# Altium footprint library Fasteners & Fixings.PcbLib: 118 footprints (part 3 of 8)
Each footprint in its own frame and in the unit in brackets; x right, y up, seen from the top. Pads: shape width x height; smd on the part's side, far side on the other; paste and mask are expansions set on the pad; w line width, h text height; cw(c..) or ccw(c..) is an arc to the next point about the centre after c.
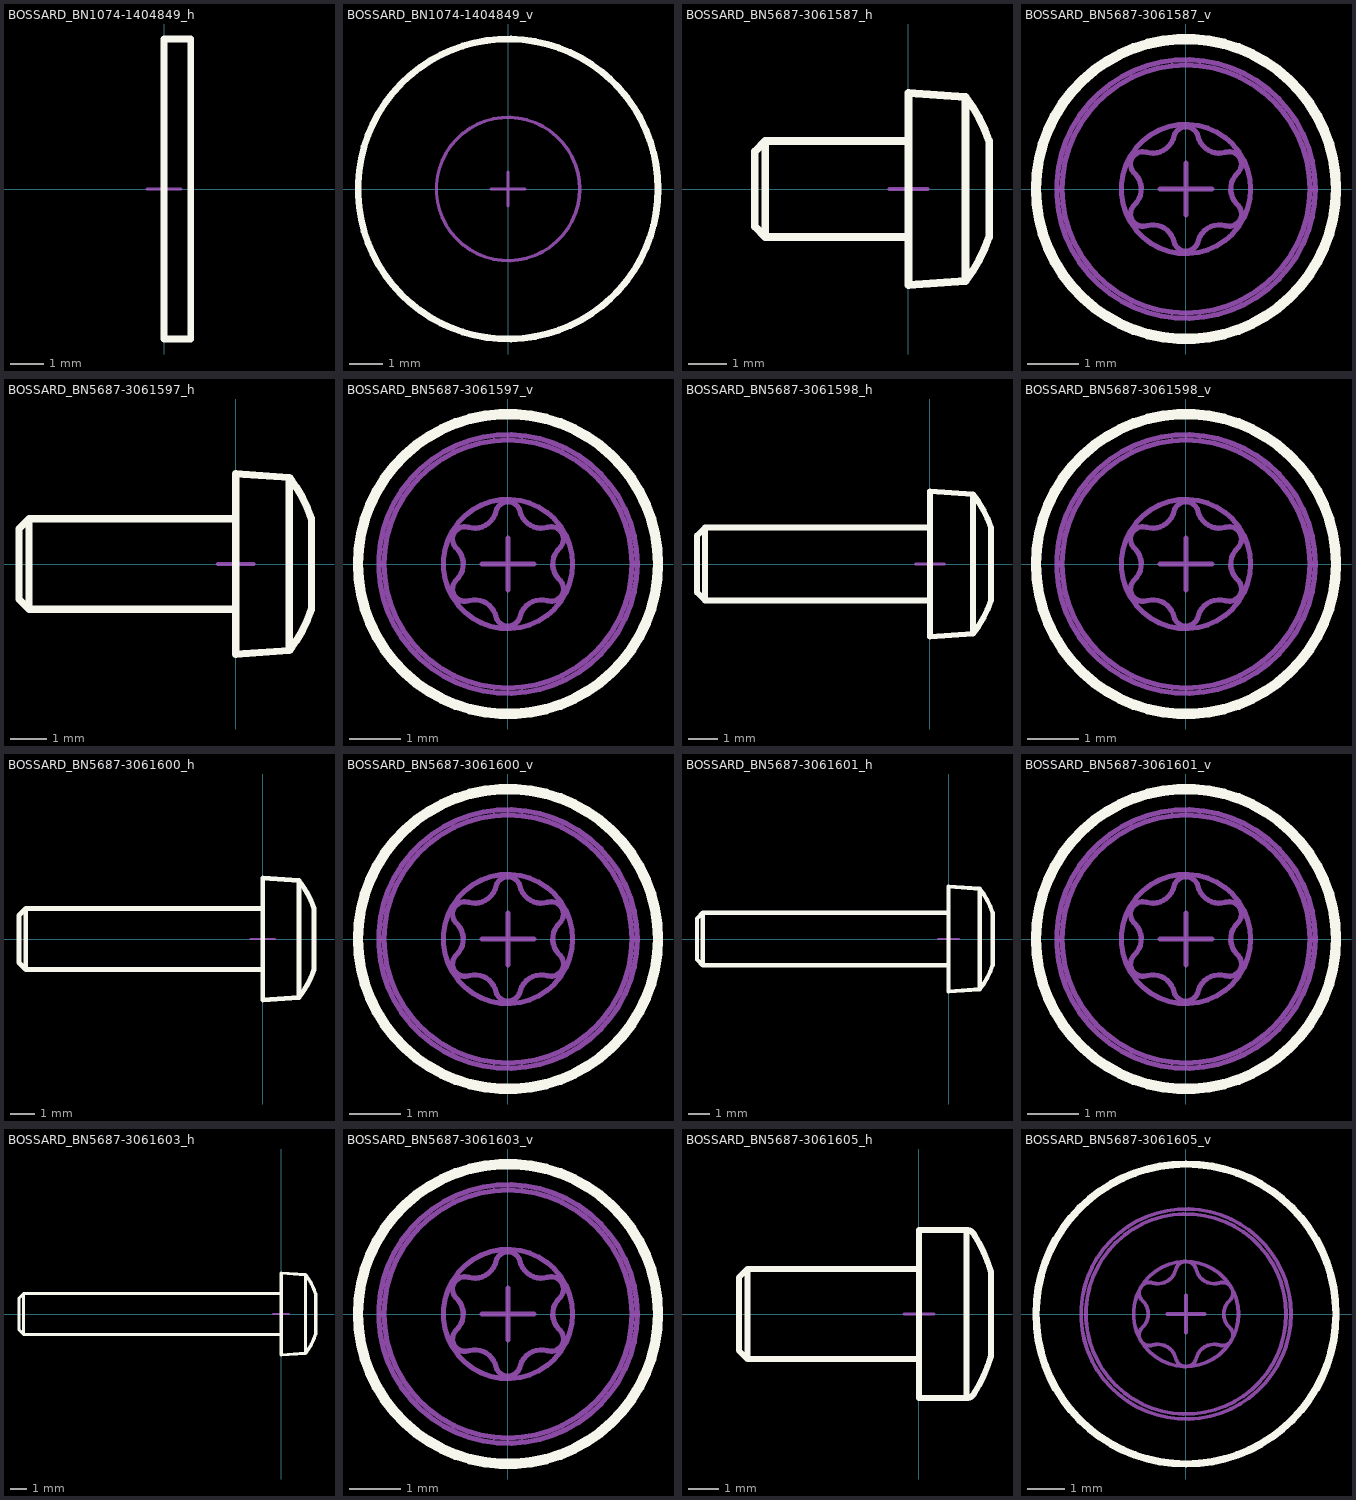
[diagram p2: the footprints below, top view; thin cyan lines are the x and y axes]

## BOSSARD_BN1074-1404849_h [mm] "Flat Washer without Chamfer for M4 Screw - Polyamide"
height 9
Top Overlay:
  lines w0.2: 0,-4.5 0,4.5 0.8,4.5 0.8,-4.5 0,-4.5
Mechanical 8:
  lines w0.1: -0.5,0 0,0 ; 0,-0.5 0,0 ; 0,0.5 0,0 ; 0.5,0 0,0
Mechanical 14:
  lines w0.1: 0,-4.5 0,4.5 0.8,4.5 0.8,-4.5 0,-4.5
3D body "BOSSARD_BN1074-1404849_h.stp": height 4.5, standoff -4.5, extent 0,-4.5 0.8,4.5

## BOSSARD_BN1074-1404849_v [mm] "Flat Washer without Chamfer for M4 Screw - Polyamide"
height 0.8
Top Overlay:
  circle w0.2: c0,0 r4.5
Mechanical 8:
  lines w0.1: -0.5,0 0,0 ; 0,-0.5 0,0 ; 0,0.5 0,0 ; 0.5,0 0,0
Mechanical 14:
  circle w0.1: c0,0 r2.15
  circle w0.1: c0,0 r4.5
3D body "BOSSARD_BN1074-1404849_v.stp": height 0.8, standoff 0, extent -4.5,-4.5 4.5,4.5

## BOSSARD_BN5687-3061587_h [mm] "M2.5 L=4mm Hexalobular Socket Pan Head Screw, Fully Threaded - Stainless Steel A2"
height 5
Top Overlay:
  lines w0.2: 0,-1.25 -3.724,-1.25 ; 0,1.25 -3.724,1.25 ; -3.724,-1.25 -3.724,1.25 ; -3.724,-1.25 -4,-0.974 -4,0.974 -3.724,1.25 ; 1.484,-2.396 ccw(c-1.598,0) 2.1,-1.25 2.1,1.25 ccw(c-1.598,0) 1.484,2.396 ; 1.484,-2.396 1.484,2.396 ; 1.484,-2.396 0,-2.5 0,2.5 1.484,2.396
Mechanical 8:
  lines w0.1: -0.5,0 0,0 ; 0,-0.5 0,0 ; 0,0.5 0,0 ; 0.5,0 0,0
Mechanical 14:
  lines w0.1: 0,-1.25 -3.724,-1.25 ; 0,1.25 -3.724,1.25 ; -3.724,-1.25 -3.724,1.25 ; -3.724,-1.25 -4,-0.974 -4,0.974 -3.724,1.25 ; 1.484,-2.396 ccw(c-1.598,0) 2.1,-1.25 2.1,1.25 ccw(c-1.598,0) 1.484,2.396 ; 1.484,-2.396 1.484,2.396 ; 1.484,-2.396 0,-2.5 0,2.5 1.484,2.396
3D body "BOSSARD_BN5687-3061587_h.stp": height 2.5, standoff -2.5, extent -4,-2.5 2.1,2.5

## BOSSARD_BN5687-3061587_v [mm] "M2.5 L=4mm Hexalobular Socket Pan Head Screw, Fully Threaded - Stainless Steel A2"
height 6.1
Top Overlay:
  circle w0.2: c0,0 r2.9
Mechanical 8:
  lines w0.1: -0.5,0 0,0 ; 0,-0.5 0,0 ; 0,0.5 0,0 ; 0.5,0 0,0
Mechanical 14:
  circle w0.1: c0,0 r2.396
  circle w0.1: c0,0 r1.25
  circle w0.1: c0,0 r2.5
  lines w0.1: 0.232,-1.021 cw(c0,-0.96) -0.233,-1.015 ccw(c-0.642,-1.112) -0.739,-0.704 cw(c-0.83,-0.48) -0.996,-0.305 ccw(c-1.284,0) -0.979,0.288 cw(c-0.831,0.479) -0.763,0.71 ccw(c-0.642,1.112) -0.233,1.015 cw(c0,0.96) 0.234,1.015 ccw(c0.642,1.112) 0.763,0.71 cw(c0.831,0.48) 0.996,0.305 ccw(c1.284,0) 0.979,-0.288 cw(c0.831,-0.479) 0.763,-0.71 ccw(c0.642,-1.112) 0.24,-0.992
3D body "BOSSARD_BN5687-3061587_v.stp": height 2.1, standoff -4, extent -2.5,-2.5 2.5,2.5

## BOSSARD_BN5687-3061597_h [mm] "M2.5 L=6mm Hexalobular Socket Pan Head Screw, Fully Threaded - Stainless Steel A2"
height 5
Top Overlay:
  lines w0.2: 0,-1.25 -5.724,-1.25 ; 0,1.25 -5.724,1.25 ; -5.724,-1.25 -6,-0.974 -6,0.974 -5.724,1.25 ; -5.724,-1.25 -5.724,1.25 ; 1.484,-2.396 ccw(c-1.598,0) 2.1,-1.25 2.1,1.25 ccw(c-1.598,0) 1.484,2.396 ; 1.484,-2.396 0,-2.5 0,2.5 1.484,2.396 ; 1.484,-2.396 1.484,2.396
Mechanical 8:
  lines w0.1: -0.5,0 0,0 ; 0,-0.5 0,0 ; 0,0.5 0,0 ; 0.5,0 0,0
Mechanical 14:
  lines w0.1: 0,-1.25 -5.724,-1.25 ; 0,1.25 -5.724,1.25 ; -5.724,-1.25 -6,-0.974 -6,0.974 -5.724,1.25 ; -5.724,-1.25 -5.724,1.25 ; 1.484,-2.396 ccw(c-1.598,0) 2.1,-1.25 2.1,1.25 ccw(c-1.598,0) 1.484,2.396 ; 1.484,-2.396 0,-2.5 0,2.5 1.484,2.396 ; 1.484,-2.396 1.484,2.396
3D body "BOSSARD_BN5687-3061597_h.stp": height 2.5, standoff -2.5, extent -6,-2.5 2.1,2.5

## BOSSARD_BN5687-3061597_v [mm] "M2.5 L=6mm Hexalobular Socket Pan Head Screw, Fully Threaded - Stainless Steel A2"
height 8.1
Top Overlay:
  circle w0.2: c0,0 r2.9
Mechanical 8:
  lines w0.1: -0.5,0 0,0 ; 0,-0.5 0,0 ; 0,0.5 0,0 ; 0.5,0 0,0
Mechanical 14:
  circle w0.1: c0,0 r2.396
  circle w0.1: c0,0 r1.25
  circle w0.1: c0,0 r2.5
  lines w0.1: 0.232,-1.021 cw(c0,-0.96) -0.233,-1.015 ccw(c-0.642,-1.112) -0.739,-0.704 cw(c-0.83,-0.48) -0.996,-0.305 ccw(c-1.284,0) -0.979,0.288 cw(c-0.831,0.479) -0.763,0.71 ccw(c-0.642,1.112) -0.233,1.015 cw(c0,0.96) 0.234,1.015 ccw(c0.642,1.112) 0.763,0.71 cw(c0.831,0.48) 0.996,0.305 ccw(c1.284,0) 0.979,-0.288 cw(c0.831,-0.479) 0.763,-0.71 ccw(c0.642,-1.112) 0.24,-0.992
3D body "BOSSARD_BN5687-3061597_v.stp": height 2.1, standoff -6, extent -2.5,-2.5 2.5,2.5

## BOSSARD_BN5687-3061598_h [mm] "M2.5 L=8mm Hexalobular Socket Pan Head Screw, Fully Threaded - Stainless Steel A2"
height 5
Top Overlay:
  lines w0.2: 0,-1.25 -7.724,-1.25 ; 0,1.25 -7.724,1.25 ; -7.724,-1.25 -7.724,1.25 ; -7.724,-1.25 -8,-0.974 -8,0.974 -7.724,1.25 ; 1.484,-2.396 ccw(c-1.598,0) 2.1,-1.25 2.1,1.25 ccw(c-1.598,0) 1.484,2.396 ; 1.484,-2.396 1.484,2.396 ; 1.484,-2.396 0,-2.5 0,2.5 1.484,2.396
Mechanical 8:
  lines w0.1: -0.5,0 0,0 ; 0,-0.5 0,0 ; 0,0.5 0,0 ; 0.5,0 0,0
Mechanical 14:
  lines w0.1: 0,-1.25 -7.724,-1.25 ; 0,1.25 -7.724,1.25 ; -7.724,-1.25 -7.724,1.25 ; -7.724,-1.25 -8,-0.974 -8,0.974 -7.724,1.25 ; 1.484,-2.396 ccw(c-1.598,0) 2.1,-1.25 2.1,1.25 ccw(c-1.598,0) 1.484,2.396 ; 1.484,-2.396 1.484,2.396 ; 1.484,-2.396 0,-2.5 0,2.5 1.484,2.396
3D body "BOSSARD_BN5687-3061598_h.stp": height 2.5, standoff -2.5, extent -8,-2.5 2.1,2.5

## BOSSARD_BN5687-3061598_v [mm] "M2.5 L=8mm Hexalobular Socket Pan Head Screw, Fully Threaded - Stainless Steel A2"
height 10.1
Top Overlay:
  circle w0.2: c0,0 r2.9
Mechanical 8:
  lines w0.1: -0.5,0 0,0 ; 0,-0.5 0,0 ; 0,0.5 0,0 ; 0.5,0 0,0
Mechanical 14:
  circle w0.1: c0,0 r2.396
  circle w0.1: c0,0 r1.25
  circle w0.1: c0,0 r2.5
  lines w0.1: 0.232,-1.021 cw(c0,-0.96) -0.233,-1.015 ccw(c-0.642,-1.112) -0.739,-0.704 cw(c-0.83,-0.48) -0.996,-0.305 ccw(c-1.284,0) -0.979,0.288 cw(c-0.831,0.479) -0.763,0.71 ccw(c-0.642,1.112) -0.233,1.015 cw(c0,0.96) 0.234,1.015 ccw(c0.642,1.112) 0.763,0.71 cw(c0.831,0.48) 0.996,0.305 ccw(c1.284,0) 0.979,-0.288 cw(c0.831,-0.479) 0.763,-0.71 ccw(c0.642,-1.112) 0.24,-0.992
3D body "BOSSARD_BN5687-3061598_v.stp": height 2.1, standoff -8, extent -2.5,-2.5 2.5,2.5

## BOSSARD_BN5687-3061600_h [mm] "M2.5 L=10mm Hexalobular Socket Pan Head Screw, Fully Threaded - Stainless Steel A2"
height 5
Top Overlay:
  lines w0.2: 0,-1.25 -9.724,-1.25 ; 0,1.25 -9.724,1.25 ; -9.724,-1.25 -10,-0.974 -10,0.974 -9.724,1.25 ; -9.724,-1.25 -9.724,1.25 ; 1.484,-2.396 ccw(c-1.598,0) 2.1,-1.25 2.1,1.25 ccw(c-1.598,0) 1.484,2.396 ; 1.484,-2.396 0,-2.5 0,2.5 1.484,2.396 ; 1.484,-2.396 1.484,2.396
Mechanical 8:
  lines w0.1: -0.5,0 0,0 ; 0,-0.5 0,0 ; 0,0.5 0,0 ; 0.5,0 0,0
Mechanical 14:
  lines w0.1: 0,-1.25 -9.724,-1.25 ; 0,1.25 -9.724,1.25 ; -9.724,-1.25 -10,-0.974 -10,0.974 -9.724,1.25 ; -9.724,-1.25 -9.724,1.25 ; 1.484,-2.396 ccw(c-1.598,0) 2.1,-1.25 2.1,1.25 ccw(c-1.598,0) 1.484,2.396 ; 1.484,-2.396 0,-2.5 0,2.5 1.484,2.396 ; 1.484,-2.396 1.484,2.396
3D body "BOSSARD_BN5687-3061600_h.stp": height 2.5, standoff -2.5, extent -10,-2.5 2.1,2.5

## BOSSARD_BN5687-3061600_v [mm] "M2.5 L=10mm Hexalobular Socket Pan Head Screw, Fully Threaded - Stainless Steel A2"
height 12.1
Top Overlay:
  circle w0.2: c0,0 r2.9
Mechanical 8:
  lines w0.1: -0.5,0 0,0 ; 0,-0.5 0,0 ; 0,0.5 0,0 ; 0.5,0 0,0
Mechanical 14:
  circle w0.1: c0,0 r2.5
  circle w0.1: c0,0 r1.25
  circle w0.1: c0,0 r2.396
  lines w0.1: 0.232,-1.021 cw(c0,-0.96) -0.233,-1.015 ccw(c-0.642,-1.112) -0.739,-0.704 cw(c-0.83,-0.48) -0.996,-0.305 ccw(c-1.284,0) -0.979,0.288 cw(c-0.831,0.479) -0.763,0.71 ccw(c-0.642,1.112) -0.233,1.015 cw(c0,0.96) 0.234,1.015 ccw(c0.642,1.112) 0.763,0.71 cw(c0.831,0.48) 0.996,0.305 ccw(c1.284,0) 0.979,-0.288 cw(c0.831,-0.479) 0.763,-0.71 ccw(c0.642,-1.112) 0.24,-0.992
3D body "BOSSARD_BN5687-3061600_v.stp": height 2.1, standoff -10, extent -2.5,-2.5 2.5,2.5

## BOSSARD_BN5687-3061601_h [mm] "M2.5 L=12mm Hexalobular Socket Pan Head Screw, Fully Threaded - Stainless Steel A2"
height 5
Top Overlay:
  lines w0.2: 0,-1.25 -11.724,-1.25 ; 0,1.25 -11.724,1.25 ; -11.724,-1.25 -12,-0.974 -12,0.974 -11.724,1.25 ; -11.724,-1.25 -11.724,1.25 ; 1.484,-2.396 ccw(c-1.598,0) 2.1,-1.25 2.1,1.25 ccw(c-1.598,0) 1.484,2.396 ; 1.484,-2.396 0,-2.5 0,2.5 1.484,2.396 ; 1.484,-2.396 1.484,2.396
Mechanical 8:
  lines w0.1: -0.5,0 0,0 ; 0,-0.5 0,0 ; 0,0.5 0,0 ; 0.5,0 0,0
Mechanical 14:
  lines w0.1: 0,-1.25 -11.724,-1.25 ; 0,1.25 -11.724,1.25 ; -11.724,-1.25 -12,-0.974 -12,0.974 -11.724,1.25 ; -11.724,-1.25 -11.724,1.25 ; 1.484,-2.396 ccw(c-1.598,0) 2.1,-1.25 2.1,1.25 ccw(c-1.598,0) 1.484,2.396 ; 1.484,-2.396 0,-2.5 0,2.5 1.484,2.396 ; 1.484,-2.396 1.484,2.396
3D body "BOSSARD_BN5687-3061601_h.stp": height 2.5, standoff -2.5, extent -12,-2.5 2.1,2.5

## BOSSARD_BN5687-3061601_v [mm] "M2.5 L=12mm Hexalobular Socket Pan Head Screw, Fully Threaded - Stainless Steel A2"
height 14.1
Top Overlay:
  circle w0.2: c0,0 r2.9
Mechanical 8:
  lines w0.1: -0.5,0 0,0 ; 0,-0.5 0,0 ; 0,0.5 0,0 ; 0.5,0 0,0
Mechanical 14:
  circle w0.1: c0,0 r2.5
  circle w0.1: c0,0 r1.25
  circle w0.1: c0,0 r2.396
  lines w0.1: 0.232,-1.021 cw(c0,-0.96) -0.233,-1.015 ccw(c-0.642,-1.112) -0.739,-0.704 cw(c-0.83,-0.48) -0.996,-0.305 ccw(c-1.284,0) -0.979,0.288 cw(c-0.831,0.479) -0.763,0.71 ccw(c-0.642,1.112) -0.233,1.015 cw(c0,0.96) 0.234,1.015 ccw(c0.642,1.112) 0.763,0.71 cw(c0.831,0.48) 0.996,0.305 ccw(c1.284,0) 0.979,-0.288 cw(c0.831,-0.479) 0.763,-0.71 ccw(c0.642,-1.112) 0.24,-0.992
3D body "BOSSARD_BN5687-3061601_v.stp": height 2.1, standoff -12, extent -2.5,-2.5 2.5,2.5

## BOSSARD_BN5687-3061603_h [mm] "M2.5 L=16mm Hexalobular Socket Pan Head Screw, Fully Threaded - Stainless Steel A2"
height 5
Top Overlay:
  lines w0.2: 0,-1.25 -15.724,-1.25 ; 0,1.25 -15.724,1.25 ; -15.724,-1.25 -15.724,1.25 ; -15.724,-1.25 -16,-0.974 -16,0.974 -15.724,1.25 ; 1.484,-2.396 ccw(c-1.598,0) 2.1,-1.25 2.1,1.25 ccw(c-1.598,0) 1.484,2.396 ; 1.484,-2.396 1.484,2.396 ; 1.484,-2.396 0,-2.5 0,2.5 1.484,2.396
Mechanical 8:
  lines w0.1: -0.5,0 0,0 ; 0,-0.5 0,0 ; 0,0.5 0,0 ; 0.5,0 0,0
Mechanical 14:
  lines w0.1: 0,-1.25 -15.724,-1.25 ; 0,1.25 -15.724,1.25 ; -15.724,-1.25 -15.724,1.25 ; -15.724,-1.25 -16,-0.974 -16,0.974 -15.724,1.25 ; 1.484,-2.396 ccw(c-1.598,0) 2.1,-1.25 2.1,1.25 ccw(c-1.598,0) 1.484,2.396 ; 1.484,-2.396 1.484,2.396 ; 1.484,-2.396 0,-2.5 0,2.5 1.484,2.396
3D body "BOSSARD_BN5687-3061603_h.stp": height 2.5, standoff -2.5, extent -16,-2.5 2.1,2.5

## BOSSARD_BN5687-3061603_v [mm] "M2.5 L=16mm Hexalobular Socket Pan Head Screw, Fully Threaded - Stainless Steel A2"
height 18.1
Top Overlay:
  circle w0.2: c0,0 r2.9
Mechanical 8:
  lines w0.1: -0.5,0 0,0 ; 0,-0.5 0,0 ; 0,0.5 0,0 ; 0.5,0 0,0
Mechanical 14:
  circle w0.1: c0,0 r2.5
  circle w0.1: c0,0 r1.25
  circle w0.1: c0,0 r2.396
  lines w0.1: 0.232,-1.021 cw(c0,-0.96) -0.233,-1.015 ccw(c-0.642,-1.112) -0.739,-0.704 cw(c-0.83,-0.48) -0.996,-0.305 ccw(c-1.284,0) -0.979,0.288 cw(c-0.831,0.479) -0.763,0.71 ccw(c-0.642,1.112) -0.233,1.015 cw(c0,0.96) 0.234,1.015 ccw(c0.642,1.112) 0.763,0.71 cw(c0.831,0.48) 0.996,0.305 ccw(c1.284,0) 0.979,-0.288 cw(c0.831,-0.479) 0.763,-0.71 ccw(c0.642,-1.112) 0.24,-0.992
3D body "BOSSARD_BN5687-3061603_v.stp": height 2.1, standoff -16, extent -2.5,-2.5 2.5,2.5

## BOSSARD_BN5687-3061605_h [mm] "M3 L=6mm Hexalobular Socket Pan Head Screw, Fully Threaded - Stainless Steel A2"
height 5.6
Top Overlay:
  lines w0.2: 0,-1.5 -5.724,-1.5 ; 0,1.5 -5.724,1.5 ; 1.828,2.669 ccw(c1.591,2.521) 1.591,2.8 ; 1.827,2.67 cw(c-2.4,0) 2.4,1.4 2.4,-1.4 cw(c-2.4,0) 1.828,-2.67 cw(c1.591,-2.52) 1.591,-2.8 ; -5.724,-1.5 -6,-1.224 -6,1.224 -5.724,1.5 ; -5.724,-1.5 -5.724,1.5 ; 1.591,-2.8 1.591,2.8 ; 1.591,-2.8 0,-2.8 0,2.8 1.591,2.8
Mechanical 8:
  lines w0.1: -0.5,0 0,0 ; 0,-0.5 0,0 ; 0,0.5 0,0 ; 0.5,0 0,0
Mechanical 14:
  lines w0.1: 0,-1.5 -5.724,-1.5 ; 0,1.5 -5.724,1.5 ; 1.828,2.669 ccw(c1.591,2.521) 1.591,2.8 ; 1.827,2.67 cw(c-2.4,0) 2.4,1.4 2.4,-1.4 cw(c-2.4,0) 1.828,-2.67 cw(c1.591,-2.52) 1.591,-2.8 ; -5.724,-1.5 -6,-1.224 -6,1.224 -5.724,1.5 ; -5.724,-1.5 -5.724,1.5 ; 1.591,-2.8 1.591,2.8 ; 1.591,-2.8 0,-2.8 0,2.8 1.591,2.8
3D body "BOSSARD_BN5687-3061605_h.stp": height 2.8, standoff -2.8, extent -6,-2.8 2.4,2.8

## BOSSARD_BN5687-3061605_v [mm] "M3 L=6mm Hexalobular Socket Pan Head Screw, Fully Threaded - Stainless Steel A2"
height 8.4
Top Overlay:
  circle w0.2: c0,0 r4
Mechanical 8:
  lines w0.1: -0.5,0 0,0 ; 0,-0.5 0,0 ; 0,0.5 0,0 ; 0.5,0 0,0
Mechanical 14:
  circle w0.1: c0,0 r2.8
  circle w0.1: c0,0 r1.4
  circle w0.1: c0,0 r2.669
  lines w0.1: -1.162,-0.356 ccw(c-0.97,-0.56) -0.89,-0.828 cw(c-0.749,-1.298) -0.272,-1.185 ccw(c0,-1.12) 0.272,-1.185 cw(c0.749,-1.298) 0.89,-0.828 ccw(c0.97,-0.56) 1.162,-0.356 cw(c1.498,0) 1.162,0.356 ccw(c0.97,0.56) 0.89,0.828 cw(c0.749,1.298) 0.272,1.185 ccw(c0,1.12) -0.272,1.185 cw(c-0.749,1.298) -0.89,0.828 ccw(c-0.97,0.56) -1.162,0.356 cw(c-1.498,0) -1.162,-0.356
3D body "BOSSARD_BN5687-3061605_v.stp": height 2.4, standoff -6, extent -2.8,-2.8 2.8,2.8